# Altium footprint library GE0805C-9.PcbLib: 1 footprints
Each footprint in its own frame and in the unit in brackets; x right, y up, seen from the top. Pads: shape width x height; smd on the part's side, far side on the other; paste and mask are expansions set on the pad; w line width, h text height; cw(c..) or ccw(c..) is an arc to the next point about the centre after c.
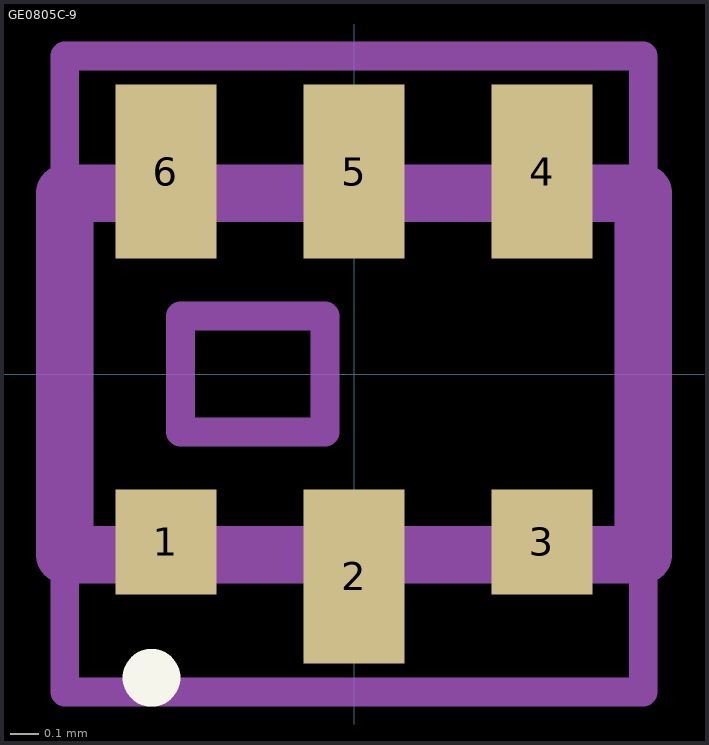
[diagram p0: the footprint, top view; thin cyan lines are the x and y axes]

## GE0805C-9 [mm]
pads (6):
  rect 0.35x0.363 smd mask+0.05: 1(-0.65,-0.58) 3(0.65,-0.58)
  rect 0.35x0.6 smd mask+0.05: 2(0,-0.7) 4(0.65,0.7) 5(0,0.7) 6(-0.65,0.7)
Top Overlay:
  lines w0.1: -0.7,-1.1 ccw(c-0.7,-1.05) -0.7,-1 ccw(c-0.7,-1.05) -0.7,-1.1
Top Courtyard:
  lines w0.2: -1,-0.625 -1,0.625 1,0.625 1,-0.625 -1,-0.625
Top Assembly:
  lines w0.1: -0.6,-0.2 -0.6,0.2 -0.2,0.2 -0.1,0.2 -0.1,-0.2 -0.6,-0.2
Mechanical 15:
  lines w0.1: -1,-1.1 -1,1.1 1,1.1 1,-1.1 -1,-1.1
3D body: height 0.95, standoff 0, extent -1,-0.625 1,0.625
3D body: height 0.97, standoff 0, extent -0.8,0.407 -0.5,0.633
3D body: height 0.97, standoff 0, extent -0.15,0.407 0.15,0.633
3D body: height 0.97, standoff 0, extent 0.5,0.407 0.8,0.633
3D body: height 0.97, standoff 0, extent 0.5,-0.632 0.8,-0.407
3D body: height 0.97, standoff 0, extent -0.15,-0.632 0.15,-0.407
3D body: height 0.97, standoff 0, extent -0.8,-0.632 -0.5,-0.407
3D body: height 0.97, standoff 0.95, extent -0.8,-0.2 -0.2,0.2